# EAGLE library part 28526-MMA7455 (library toyotune)
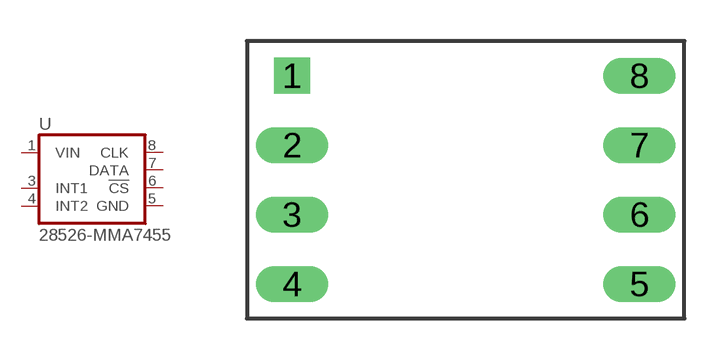
[diagram p29: symbol with the pads of 28526-MMA7455-DIL8; footprint 28526-MMA7455-DIL8]

Designator prefix -

## 28526-MMA7455  [28526-MMA7455-DIL8]
1  VIN  in
3  INT1  in
4  INT2  in
5  GND
6  !CS
7  DATA
8  CLK

## Footprint 28526-MMA7455-DIL8 (pad centres in mm)
drill 0.813 square: 1 -3.81,3.81
drill 0.813 long: 2 -3.81,1.27; 3 -3.81,-1.27; 4 -3.81,-3.81; 5 8.89,-3.81; 6 8.89,-1.27; 7 8.89,1.27; 8 8.89,3.81